# Altium footprint library CAP 3X6.PcbLib: 1 footprints
Each footprint in its own frame and in the unit in brackets; x right, y up, seen from the top. Pads: shape width x height; smd on the part's side, far side on the other; paste and mask are expansions set on the pad; w line width, h text height; cw(c..) or ccw(c..) is an arc to the next point about the centre after c.
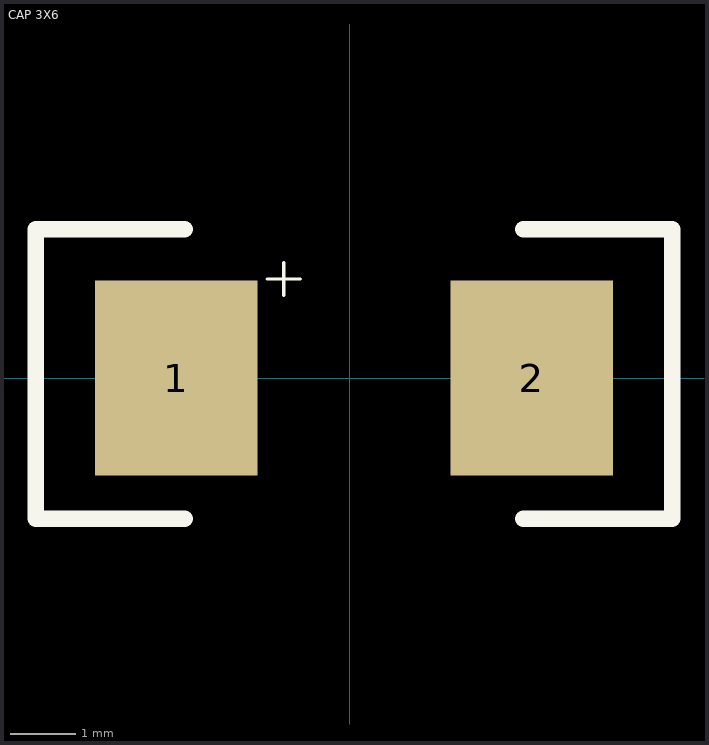
[diagram p0: the footprint, top view; thin cyan lines are the x and y axes]

## CAP 3X6 [mm] "CAP 3X6"
pads (2):
  rect 2.5x3 smd: 1(-2.667,0) 2(2.797,0)
Top Overlay:
  lines w0.051: -1.27,1.524 -0.762,1.524 ; -1.016,1.27 -1.016,1.778
  lines w0.254: -2.54,-2.159 -4.826,-2.159 -4.826,2.286 -2.54,2.286 ; 2.667,-2.159 4.953,-2.159 4.953,2.286 2.667,2.286